# EAGLE library part DF40.30PIN (library hirose)
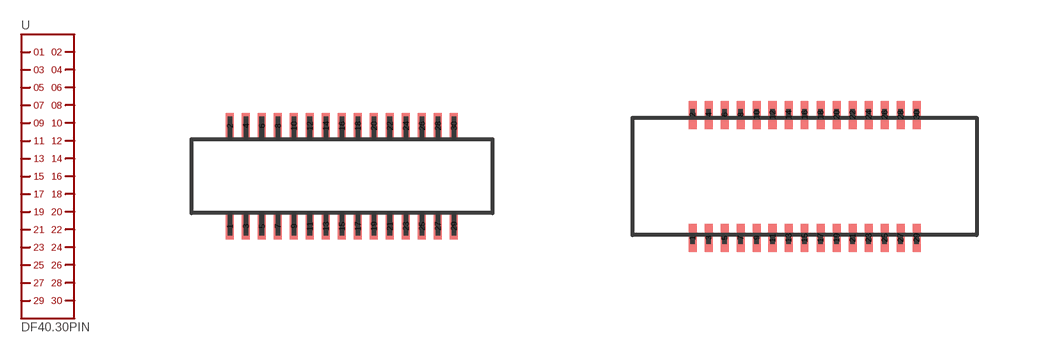
[diagram p2: symbol with the pads of DF40(XX)-30DP-0.4V; footprints DF40(XX)-30DP-0.4V, DF40(XX)-30DS-0.4V]

Designator prefix -

## DF40.30PIN.HEADER  [DF40(XX)-30DP-0.4V]
1  1
2  2
3  3
4  4
5  5
6  6
7  7
8  8
9  9
10  10
11  11
12  12
13  13
14  14
15  15
16  16
17  17
18  18
19  19
20  20
21  21
22  22
23  23
24  24
25  25
26  26
27  27
28  28
29  29
30  30

## DF40.30PIN.RECEPTACLE  [DF40(XX)-30DS-0.4V]
Pads as for DF40(XX)-30DP-0.4V

## Footprint DF40(XX)-30DP-0.4V (pad centres in mm)
smd 0.2 x 0.66: 1 -2.8,-1.255; 2 -2.8,1.255; 3 -2.4,-1.255; 4 -2.4,1.255; 5 -2,-1.255; 6 -2,1.255; 7 -1.6,-1.255; 8 -1.6,1.255; 9 -1.2,-1.255; 10 -1.2,1.255; 11 -0.8,-1.255; 12 -0.8,1.255; 13 -0.4,-1.255; 14 -0.4,1.255; 15 0,-1.255; 16 0,1.255; 17 0.4,-1.255; 18 0.4,1.255; 19 0.8,-1.255; 20 0.8,1.255; 21 1.2,-1.255; 22 1.2,1.255; 23 1.6,-1.255; 24 1.6,1.255; 25 2,-1.255; 26 2,1.255; 27 2.4,-1.255; 28 2.4,1.255; 29 2.8,-1.255; 30 2.8,1.255

## Footprint DF40(XX)-30DS-0.4V (pad centres in mm)
smd 0.2 x 0.7: 1 -2.8,-1.54; 2 -2.8,1.54; 3 -2.4,-1.54; 4 -2.4,1.54; 5 -2,-1.54; 6 -2,1.54; 7 -1.6,-1.54; 8 -1.6,1.54; 9 -1.2,-1.54; 10 -1.2,1.54; 11 -0.8,-1.54; 12 -0.8,1.54; 13 -0.4,-1.54; 14 -0.4,1.54; 15 0,-1.54; 16 0,1.54; 17 0.4,-1.54; 18 0.4,1.54; 19 0.8,-1.54; 20 0.8,1.54; 21 1.2,-1.54; 22 1.2,1.54; 23 1.6,-1.54; 24 1.6,1.54; 25 2,-1.54; 26 2,1.54; 27 2.4,-1.54; 28 2.4,1.54; 29 2.8,-1.54; 30 2.8,1.54